# Altium footprint library WiFI-BT.PcbLib: 7 footprints
Each footprint in its own frame and in the unit in brackets; x right, y up, seen from the top. Pads: shape width x height; smd on the part's side, far side on the other; paste and mask are expansions set on the pad; w line width, h text height; cw(c..) or ccw(c..) is an arc to the next point about the centre after c.
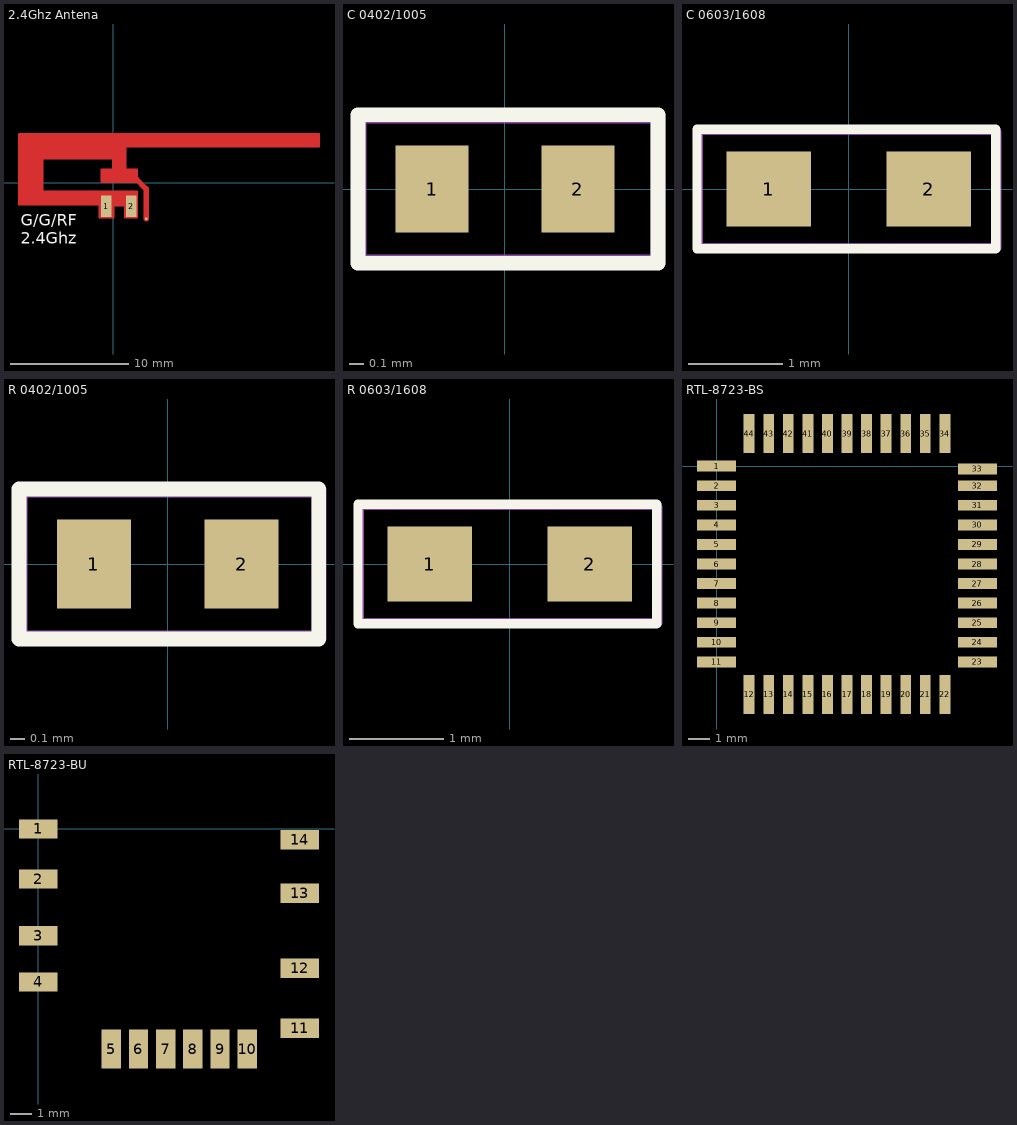
[diagram p0: the footprints below, top view; thin cyan lines are the x and y axes]

## 2.4Ghz Antena [mm] "SWRU120D"
pads (3):
  rect 0.9x1.8 smd: 1(-0.572,-1.968) 2(1.524,-1.968)
  rect 0.2x0.2 smd: 3(2.801,-3.023)
Top Layer:
  rectangle: -1.136,-2.896 0.015,-1.397
  rectangle: 0.635,3.104 17.431,4.115
  rectangle: 0.015,0.889 1.015,3.048
  rectangle: -0.986,0.104 2.014,1.105
  rectangle: -7.969,2.106 1.016,4.115
  rectangle: -7.969,-1.835 -5.985,4.115
  rectangle: -7.969,-1.847 2.014,-0.762
  rectangle: 1.015,-2.896 2.014,-0.762
  rectangle: -7.969,-1.827 -7.969,4.115
  lines w0.203: -7.969,-1.829 -7.969,4.115 17.431,4.115 17.431,3.104 1.015,3.104 1.015,1.105 2.014,1.105 2.014,0.104 -0.986,0.104 -0.986,1.105 0.015,1.105 0.015,2.106 -5.985,2.106 -5.985,-0.762 2.014,-0.762 2.014,-2.896 1.988,-2.921 1.015,-2.921 ; -7.969,-1.827 -1.136,-1.854 -1.136,-2.896 0.015,-2.896 0.015,-1.895 1.015,-1.895 1.015,-2.896
  lines w0.457: 1.948,0.353 2.801,-0.5 2.801,-3.023
Top Overlay:
  text "G/G/RF / 2.4Ghz" at -7.81,-5.143 h1

## C 0402/1005 [mm]
pads (2):
  rect 0.5x0.6 smd: 1(-0.5,0) 2(0.5,0)
Top Overlay:
  lines w0.1: -1.008,-0.508 1.05,-0.508 1.05,0.508 -1.008,0.508 -1.008,-0.508
Mechanical 29:
  lines w0.1: -0.675,0.5 -1,0.5 -1,-0.5 1.05,-0.5 1.05,0.5 -0.675,0.5 ; -0.675,0.5 -0.675,0.5
  text ".Designator" at -0.825,-0.275 h0.6
3D body: height 0.64, standoff 0, extent -0.5,-0.3 0.525,0.3
3D body: height 0.64, standoff 0, extent -0.75,-0.3 -0.5,0.3
3D body: height 0.64, standoff 0, extent 0.525,-0.3 0.75,0.3

## C 0603/1608 [mm]
pads (2):
  rect 0.9x0.8 smd: 1(-0.85,0) 2(0.85,0)
Top Overlay:
  lines w0.1: -1.612,-0.635 -1.612,0.635 1.563,0.635 1.563,-0.635 -1.612,-0.635
Mechanical 29:
  lines w0.1: -1.6,-0.625 -1.6,0.625 1.55,0.625 1.575,0.6 1.575,-0.625 -1.6,-0.625
  text ".Designator" at -1.4,-0.4 h0.8
3D body: height 0.64, standoff 0, extent -0.85,-0.4 0.85,0.4
3D body: height 0.64, standoff 0, extent -1.3,-0.4 -0.85,0.4
3D body: height 0.64, standoff 0, extent 0.85,-0.4 1.3,0.4

## R 0402/1005 [mm]
pads (2):
  rect 0.5x0.6 smd: 1(-0.5,0) 2(0.5,0)
Top Overlay:
  lines w0.1: -1.008,-0.508 1.024,-0.508 1.024,0.508 -1.008,0.508 -1.008,-0.508
Mechanical 29:
  lines w0.1: -1,-0.5 -1,0.5 1.025,0.5 1.025,-0.5 -1,-0.5
  text ".Designator" at -0.85,-0.3 h0.6
3D body: height 0.64, standoff 0, extent -0.5,-0.3 0.525,0.3
3D body: height 0.64, standoff 0, extent -0.75,-0.3 -0.5,0.3
3D body: height 0.64, standoff 0, extent 0.525,-0.3 0.75,0.3

## R 0603/1608 [mm]
pads (2):
  rect 0.9x0.8 smd: 1(-0.85,0) 2(0.85,0)
Top Overlay:
  lines w0.1: -1.612,-0.635 1.563,-0.635 1.563,0.635 -1.612,0.635 -1.612,-0.635
Mechanical 29:
  lines w0.1: -1.6,-0.625 1.575,-0.625 1.575,0.6 1.55,0.625 -1.6,0.625 -1.6,-0.625
  text ".Designator" at -1.425,-0.4 h0.8
3D body: height 0.64, standoff 0, extent 0.85,-0.4 1.3,0.4
3D body: height 0.64, standoff 0, extent -1.3,-0.4 -0.85,0.4
3D body: height 0.64, standoff 0, extent -0.85,-0.4 0.85,0.4

## RTL-8723-BS [mm]
pads (44):
  rect 1.8x0.5 smd: 1(0,0) 2(0,-0.9) 3(0,-1.8) 4(0,-2.7) 5(0,-3.6) 6(0,-4.5) 7(0,-5.4) 8(0,-6.3) 9(0,-7.2) 10(0,-8.1) 11(0,-9) 23(12,-9) 24(12,-8.1) 25(12,-7.2) 26(12,-6.3) 27(12,-5.4) 28(12,-4.5) 29(12,-3.6) 30(12,-2.7) 31(12,-1.8) 32(12,-0.9) 33(12,-0.127)
  rect 0.5x1.8 smd: 12(1.5,-10.5) 13(2.4,-10.5) 14(3.3,-10.5) 15(4.2,-10.5) 16(5.1,-10.5) 17(6,-10.5) 18(6.9,-10.5) 19(7.8,-10.5) 20(8.7,-10.5) 21(9.6,-10.5) 22(10.5,-10.5) 34(10.5,1.5) 35(9.6,1.5) 36(8.7,1.5) 37(7.8,1.5) 38(6.9,1.5) 39(6,1.5) 40(5.1,1.5) 41(4.2,1.5) 42(3.3,1.5) 43(2.4,1.5) 44(1.5,1.5)

## RTL-8723-BU [mm]
pads (14):
  rect 1.8x0.9 smd: 1(0,0) 2(0,-2.337) 3(0,-4.977) 4(0,-7.136) 11(12.2,-9.3) 12(12.2,-6.5) 13(12.2,-2.999) 14(12.2,-0.5)
  rect 0.9x1.8 smd: 5(3.404,-10.267) 6(4.674,-10.267) 7(5.944,-10.267) 8(7.214,-10.267) 9(8.484,-10.267) 10(9.754,-10.267)
3D body "User Library-BL-R8723BT1 module.STEP": height 1.1, standoff 0, extent 0.159,-10.604 12.16,2.795